# Altium footprint library SamacSys.PcbLib: 47 footprints (part 1 of 3)
Each footprint in its own frame and in the unit in brackets; x right, y up, seen from the top. Pads: shape width x height; smd on the part's side, far side on the other; paste and mask are expansions set on the pad; w line width, h text height; cw(c..) or ccw(c..) is an arc to the next point about the centre after c.
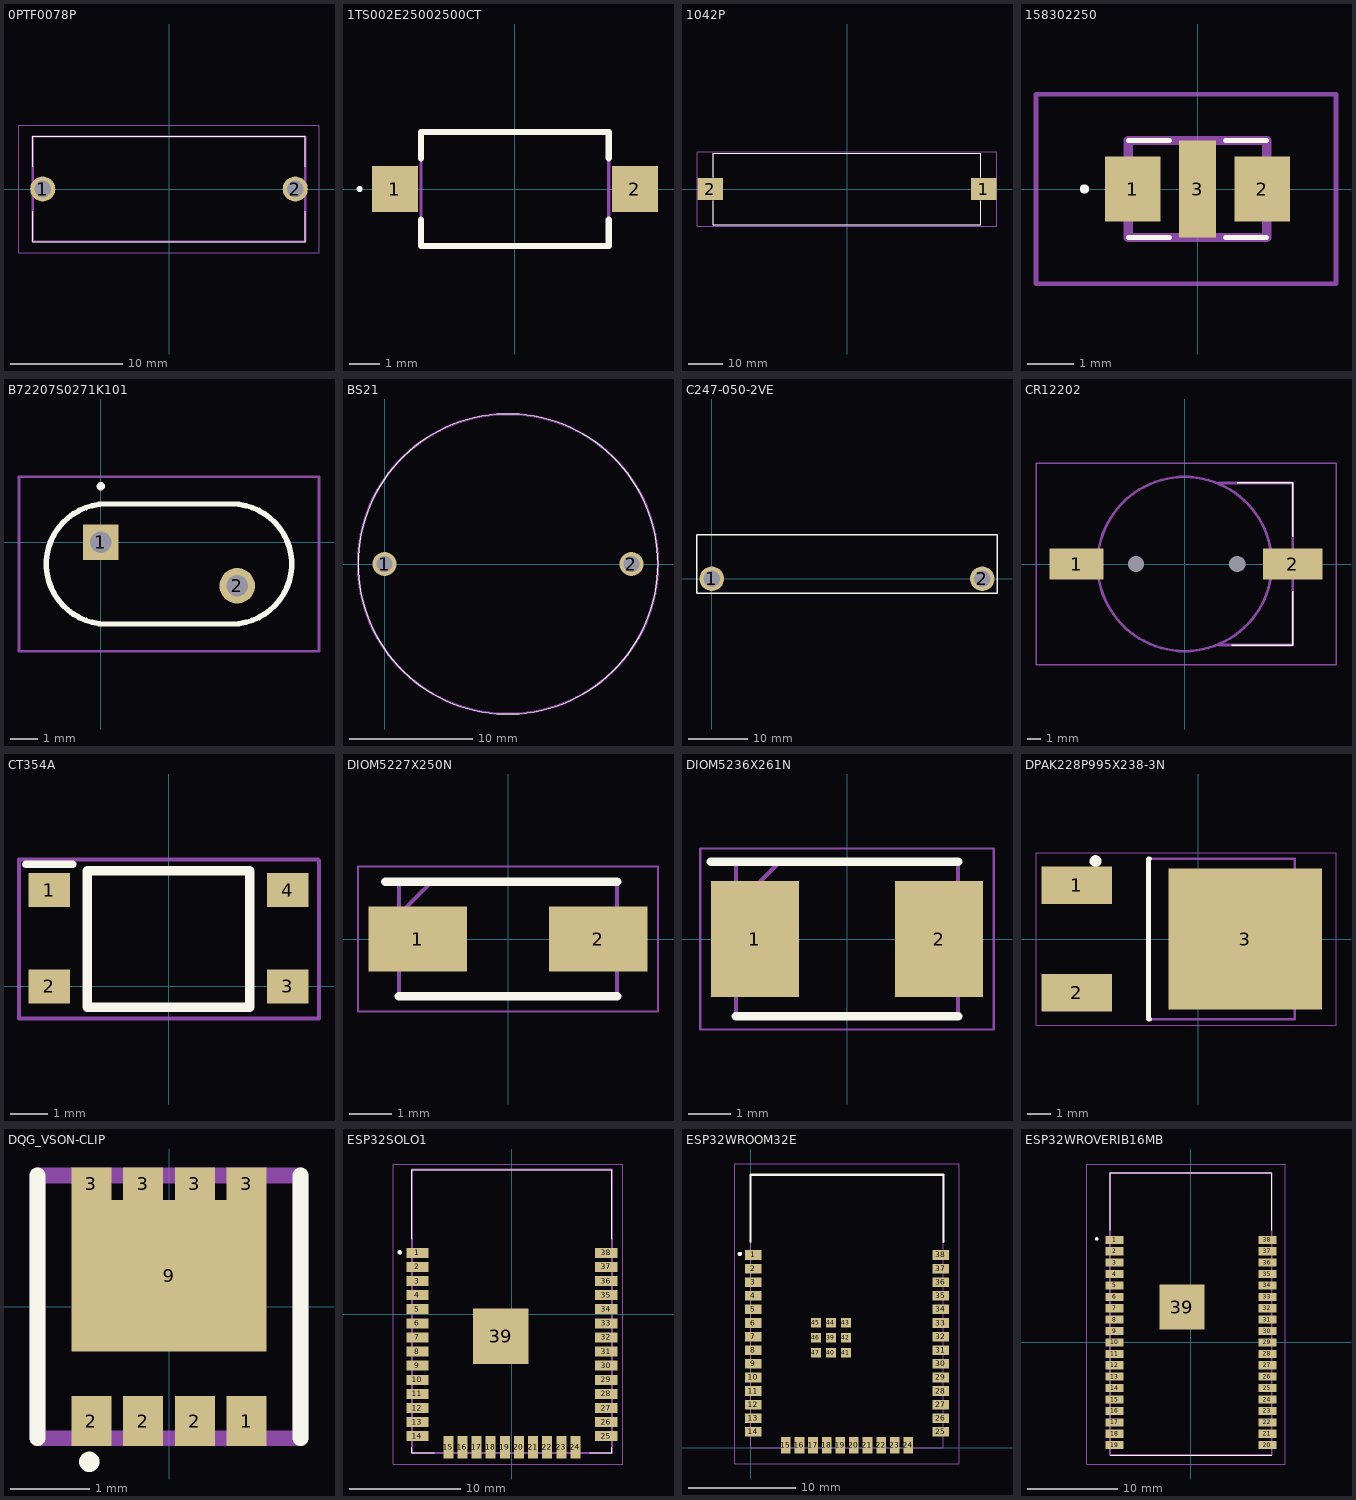
[diagram p0: the footprints below, top view; thin cyan lines are the x and y axes]

## 0PTF0078P [mm]
pads (2):
  round 2.25 hole 1.5: 1(-11.3,0) 2(11.3,0)
Top Overlay:
  lines w0.1: -12.2,-2 -12.2,-4.7 12.2,-4.7 12.2,-2 ; -12.2,2 -12.2,4.7 12.2,4.7 12.2,2
Mechanical 13:
  lines w0.2: -12.2,-4.7 12.2,-4.7 12.2,4.7 -12.2,4.7 -12.2,-4.7
Mechanical 15:
  lines w0.1: -13.425,-5.7 13.425,-5.7 13.425,5.7 -13.425,5.7 -13.425,-5.7
3D body "0PTF0078P.stp": height 11.45, standoff -3.55, extent -12.2,-4.7 12.2,4.7

## 1TS002E25002500CT [mm]
pads (2):
  rect 1.5x1.5 smd: 1(-3.9,0) 2(3.9,0)
Top Overlay:
  lines w0.1: -5.1,0 ccw(c-5.05,0) -5,0 ccw(c-5.05,0) -5.1,0
  lines w0.2: -3.05,-1 -3.05,-1.85 3.05,-1.85 3.05,-1 ; -3.05,1 -3.05,1.85 3.05,1.85 3.05,1
Mechanical 13:
  lines w0.1: -3.05,-1.85 -3.05,1.85 3.05,1.85 3.05,-1.85 -3.05,-1.85

## 1042P [mm]
pads (2):
  rect 7.34x6.35 smd: 1(39.33,0) 2(-39.33,0)
Top Overlay:
  lines w0.1: -38.525,-10.325 -38.525,-3.429 ; -38.525,3.429 -38.525,10.325 38.481,10.325 ; -38.481,-10.325 38.525,-10.325 38.525,-3.429 ; 38.525,3.429 38.525,10.325
Mechanical 13:
  lines w0.2: -38.525,-10.325 -38.525,10.325 38.525,10.325 38.525,-10.325 -38.525,-10.325
Mechanical 15:
  lines w0.1: -43.18,-10.668 43.18,-10.668 43.18,10.668 -43.18,10.668 -43.18,-10.668
3D body "keystone_1042 v1.step": height 14.96, standoff -0.02, extent -43.043,-10.321 42.961,10.329

## 158302250 [mm]
pads (3):
  rect 1.2x1.4 smd: 1(-1.4,0) 2(1.4,0)
  rect 0.8x2.1 smd: 3(0,0)
Top Overlay:
  lines w0.1: -1.5,-1.05 -0.6,-1.05 ; -1.5,1.05 -0.6,1.05 ; 0.6,-1.05 1.5,-1.05 ; 0.6,1.05 1.5,1.05 ; -2.5,0 cw(c-2.45,0) -2.4,0 cw(c-2.45,0) -2.5,0
Mechanical 13:
  lines w0.2: -1.5,-1.05 1.5,-1.05 1.5,1.05 -1.5,1.05 -1.5,-1.05
Mechanical 15:
  lines w0.1: -3.5,-2.05 3,-2.05 3,2.05 -3.5,2.05 -3.5,-2.05
3D body "158302250.stp": height 0.9, standoff 0, extent -1.5,-1.05 1.5,1.05

## B72207S0271K101 [mm]
pads (2):
  rect 1.3x1.3 hole 0.8: 1(0,0)
  round 1.3 hole 0.8: 2(5,-1.6)
Top Overlay:
  lines w0.2: 0,1.4 4.8,1.4 cw(c4.8,-0.8) 4.8,-3 0.2,-3 cw(c0.2,-0.8) 0.2,1.4 ; 0,2 ccw(c0,2.05) 0,2.1 ; 0,2 cw(c0,2.05) 0,2.1 ; 0,2 ccw(c0,2.05) 0,2.1
Mechanical 13:
  lines w0.1: 0,1.4 4.8,1.4 cw(c4.8,-0.8) 4.8,-3 0.2,-3 cw(c0.2,-0.8) 0.2,1.4
Mechanical 15:
  lines w0.1: -3,-4 -3,2.4 8,2.4 8,-4 -3,-4

## BS21 [mm]
pads (2):
  round 1.95 hole 1.3: 1(0,0) 2(20,0)
Top Overlay:
  lines w0.1: -2.15,0 ccw(c10,0) 22.15,0 ccw(c10,0) -2.15,0
Mechanical 13:
  lines w0.2: -2.15,0 ccw(c10,0) 22.15,0 ccw(c10,0) -2.15,0
3D body "BS-2-1.stp": height 9.05, standoff -5, extent -2.15,-12.15 22.15,12.15

## C247-050-2VE [mm] "Heatsink"
pads (2):
  round 4.2 hole 2.8: 1(0,0) 2(46,0)
Top Overlay:
  lines w0.254: -2.5,-2.5 -2.5,7.5 48.5,7.5 48.5,-2.5 0,-2.5 -2.5,-2.5

## CR12202 [mm]
pads (4):
  rect 4x2.3 smd: 1(-8,0)
  rect 4.4x2.3 smd: 2(8,0)
  round 0.6 hole 1.2 unplated: MH1(-3.6,0) MH2(3.9,0)
Top Overlay:
  lines w0.1: 3.5,-6 8,-6 8,-2 ; 3.9,6 8,6 8,2
Mechanical 13:
  lines w0.2: 2.5,-6 8,-6 8,6 2.5,6 ; 0,-6.45 ccw(c0,0) 0,6.45 ccw(c0,0) 0,-6.45
Mechanical 15:
  lines w0.1: -11,-7.45 -11,7.45 11.2,7.45 11.2,-7.45 -11,-7.45

## CT354A [mm]
pads (4):
  rect 1.1x0.9 smd: 1(-3.15,2.54) 2(-3.15,0) 3(3.15,0) 4(3.15,2.54)
Top Overlay:
  lines w0.2: -3.775,3.225 -2.525,3.225
  lines w0.254: -2.15,-0.55 2.15,-0.55 2.15,3.05 -2.15,3.05 -2.15,-0.05 -2.15,-0.55
Mechanical 15:
  lines w0.1: -3.95,-0.85 3.975,-0.85 3.975,3.325 3.95,3.35 -3.95,3.35 -3.95,-0.85

## DIOM5227X250N [mm]
pads (2):
  rect 2.35x1.55 smd: 1(-2.15,0) 2(2.15,0)
Top Overlay:
  lines w0.2: -2.925,1.362 2.6,1.362 ; -2.6,-1.362 2.6,-1.362
Mechanical 13:
  lines w0.1: -2.6,0.588 -1.825,1.362 ; -2.6,-1.362 2.6,-1.362 2.6,1.362 -2.6,1.362 -2.6,-1.362
Mechanical 15:
  lines w0.05: -3.575,-1.725 3.575,-1.725 3.575,1.725 -3.575,1.725 -3.575,-1.725
3D body "ES1B.stp": height 2.5, standoff 0, extent -2.6,-1.362 2.6,1.362

## DIOM5236X261N [mm]
pads (2):
  rect 2.05x2.7 smd: 1(-2.15,0) 2(2.15,0)
Top Overlay:
  lines w0.2: -3.175,1.802 2.59,1.802 ; -2.59,-1.802 2.59,-1.802
Mechanical 13:
  lines w0.1: -2.59,0.778 -1.565,1.802 ; -2.59,-1.802 2.59,-1.802 2.59,1.802 -2.59,1.802 -2.59,-1.802
Mechanical 15:
  lines w0.05: -3.425,-2.115 3.425,-2.115 3.425,2.115 -3.425,2.115 -3.425,-2.115
3D body "SK14B.stp": height 2.61, standoff 0, extent -2.59,-1.803 2.59,1.803

## DPAK228P995X238-3N [mm] "D-PAK, 3-Pads, Body 6,20x6,76mm (max), IPC Medium Density"
height 2.38
pads (3):
  rect 3x1.6 smd: 1(-5.15,2.28) 2(-5.15,-2.28)
  rect 6.5x6 smd: 3(2,0)
Top Overlay:
  circle w0.25: c-4.35,3.305 r0.125
  lines w0.2: -2.05,-3.4 -2.1,-3.4 -2.1,3.4 -2.05,3.4
Mechanical 13:
  lines w0.1: -2.1,-3.4 4.1,-3.4 4.1,3.4 -2.1,3.4 -2.1,-3.4
Mechanical 15:
  lines w0.05: -6.875,-3.65 5.85,-3.65 5.85,3.65 -6.875,3.65 -6.875,-3.65
  lines w0.1: -0.5,0 0.5,0 ; 0,-0.5 0,0.5
3D body: height 2.38, standoff 0, extent -2.1,-3.4 4.1,3.4

## DQG_VSON-CLIP [mm]
pads (9):
  rect 0.5x0.63 smd: 1(0.975,-1.435) 2(-0.975,-1.435) 2(-0.325,-1.435) 2(0.325,-1.435)
  rect 0.5x0.41 smd: 3(-0.975,1.545) 3(-0.325,1.545) 3(0.325,1.545) 3(0.975,1.545)
  rect 2.45x1.9 smd: 9(0,0.39)
Top Overlay:
  circle w0.2: c-1.001,-1.946 r0.027
  lines w0.2: -1.65,-1.65 -1.65,1.65 ; 1.65,-1.65 1.65,1.65
Mechanical 13:
  lines w0.2: -1.65,-1.65 -1.65,1.65 1.65,1.65 1.65,-1.65 -1.65,-1.65
3D body "CSD16406Q3.STEP": height 1.1, standoff 0, extent -1.65,-1.65 1.65,1.65

## ESP32SOLO1 [mm]
pads (39):
  rect 2x0.9 smd: 1(-8.5,5.51) 2(-8.5,4.24) 3(-8.5,2.97) 4(-8.5,1.7) 5(-8.5,0.43) 6(-8.5,-0.84) 7(-8.5,-2.11) 8(-8.5,-3.38) 9(-8.5,-4.65) 10(-8.5,-5.92) 11(-8.5,-7.19) 12(-8.5,-8.46) 13(-8.5,-9.73) 14(-8.5,-11) 25(8.5,-11) 26(8.5,-9.73) 27(8.5,-8.46) 28(8.5,-7.19) 29(8.5,-5.92) 30(8.5,-4.65) 31(8.5,-3.38) 32(8.5,-2.11) 33(8.5,-0.84) 34(8.5,0.43) 35(8.5,1.7) 36(8.5,2.97) 37(8.5,4.24) 38(8.5,5.51)
  rect 0.9x2 smd: 15(-5.715,-12) 16(-4.445,-12) 17(-3.175,-12) 18(-1.905,-12) 19(-0.635,-12) 20(0.635,-12) 21(1.905,-12) 22(3.175,-12) 23(4.445,-12) 24(5.715,-12)
  rect 5x5 smd: 39(-1,-1.99)
Top Overlay:
  lines w0.1: -9,-12 -9,-12.5 -7,-12.5 ; -9,6.75 -9,13 9,13 9,6.75 ; 7,-12.5 9,-12.5 9,-12
  lines w0.2: -10.1,5.45 ccw(c-10.1,5.55) -10.1,5.65 ccw(c-10.1,5.55) -10.1,5.45
Mechanical 13:
  lines w0.2: -9,-12.5 -9,13 9,13 9,-12.5 -9,-12.5
Mechanical 15:
  lines w0.1: -10.7,-13.5 -10.7,13.5 10,13.5 10,-13.5 -10.7,-13.5
3D body "ESP32-WROVER-IB.stp": height 3.1, standoff 0, extent -9,-12.47 9,13.03

## ESP32WROOM32E [mm]
pads (47):
  rect 1.5x0.9 smd: 1(0.25,18.01) 2(0.25,16.74) 3(0.25,15.47) 4(0.25,14.2) 5(0.25,12.93) 6(0.25,11.66) 7(0.25,10.39) 8(0.25,9.12) 9(0.25,7.85) 10(0.25,6.58) 11(0.25,5.31) 12(0.25,4.04) 13(0.25,2.77) 14(0.25,1.5) 25(17.75,1.5) 26(17.75,2.77) 27(17.75,4.04) 28(17.75,5.31) 29(17.75,6.58) 30(17.75,7.85) 31(17.75,9.12) 32(17.75,10.39) 33(17.75,11.66) 34(17.75,12.93) 35(17.75,14.2) 36(17.75,15.47) 37(17.75,16.74) 38(17.75,18.01)
  rect 0.9x1.5 smd: 15(3.29,0.25) 16(4.56,0.25) 17(5.83,0.25) 18(7.1,0.25) 19(8.37,0.25) 20(9.64,0.25) 21(10.91,0.25) 22(12.18,0.25) 23(13.45,0.25) 24(14.72,0.25)
  rect 0.9x0.9 smd: 39(7.5,10.29) 40(7.5,8.89) 41(8.9,8.89) 42(8.9,10.29) 43(8.9,11.69) 44(7.5,11.69) 45(6.1,11.69) 46(6.1,10.29) 47(6.1,8.89)
Top Overlay:
  lines w0.2: 0,19.25 0,25.5 18,25.5 18,19.25 ; -1,18.01 cw(c-1,18.11) -1,18.21 cw(c-1,18.11) -1,18.01
Mechanical 13:
  lines w0.1: 0,0 18,0 18,25.5 0,25.5 0,0
Mechanical 15:
  lines w0.1: -1.5,-1.5 19.5,-1.5 19.5,26.5 -1.5,26.5 -1.5,-1.5
3D body "ESP32-WROOM-32E.stp": height 3.35, standoff 0, extent 0,0 18,25.5

## ESP32WROVERIB16MB [mm]
pads (39):
  rect 2x0.9 smd: 1(-8.5,11.43) 2(-8.5,10.16) 3(-8.5,8.89) 4(-8.5,7.62) 5(-8.5,6.35) 6(-8.5,5.08) 7(-8.5,3.81) 8(-8.5,2.54) 9(-8.5,1.27) 10(-8.5,0) 11(-8.5,-1.27) 12(-8.5,-2.54) 13(-8.5,-3.81) 14(-8.5,-5.08) 15(-8.5,-6.35) 16(-8.5,-7.62) 17(-8.5,-8.89) 18(-8.5,-10.16) 19(-8.5,-11.43) 20(8.5,-11.43) 21(8.5,-10.16) 22(8.5,-8.89) 23(8.5,-7.62) 24(8.5,-6.35) 25(8.5,-5.08) 26(8.5,-3.81) 27(8.5,-2.54) 28(8.5,-1.27) 29(8.5,0) 30(8.5,1.27) 31(8.5,2.54) 32(8.5,3.81) 33(8.5,5.08) 34(8.5,6.35) 35(8.5,7.62) 36(8.5,8.89) 37(8.5,10.16) 38(8.5,11.43)
  rect 5x5 smd: 39(-1,3.93)
Top Overlay:
  lines w0.1: -9,-12.53 9,-12.53 ; -9,12.5 -9,18.87 9,18.87 9,12.5
  lines w0.2: -10.5,11.43 cw(c-10.5,11.53) -10.5,11.63 cw(c-10.5,11.53) -10.5,11.43
Mechanical 13:
  lines w0.2: -9,-12.53 -9,18.87 9,18.87 9,-12.53 -9,-12.53
Mechanical 15:
  lines w0.1: -11.6,-13.53 -11.6,19.87 10.5,19.87 10.5,-13.53 -11.6,-13.53
3D body "ESP32-WROVER-IB__16MB_.stp": height 3.5, standoff 0, extent -9,-12.53 9,18.87